# Altium footprint library IND_SPM6530T-100M.PcbLib: 1 footprints
Each footprint in its own frame and in the unit in brackets; x right, y up, seen from the top. Pads: shape width x height; smd on the part's side, far side on the other; paste and mask are expansions set on the pad; w line width, h text height; cw(c..) or ccw(c..) is an arc to the next point about the centre after c.
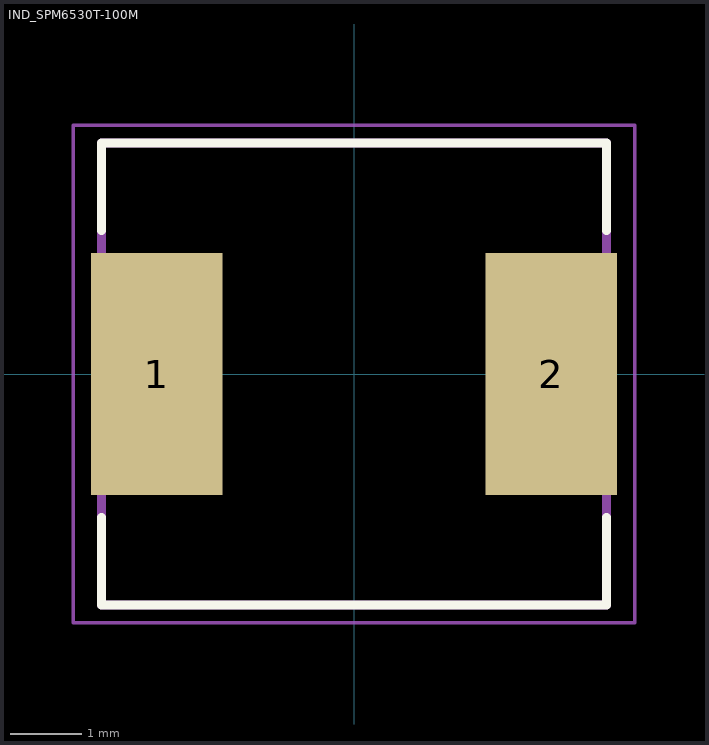
[diagram p0: the footprint, top view; thin cyan lines are the x and y axes]

## IND_SPM6530T-100M [mm]
height 3
pads (2):
  rect 1.85x3.4 smd: 1(-2.775,0) 2(2.775,0)
Top Overlay:
  lines w0.127: -3.55,-2.02 -3.55,-3.25 3.55,-3.25 3.55,-2.02 ; -3.55,2.02 -3.55,3.25 3.55,3.25 3.55,2.02
Assembly Top:
  lines w0.127: -3.55,-3.25 3.55,-3.25 3.55,3.25 -3.55,3.25 -3.55,-3.25
Top Courtyard:
  lines w0.05: -3.95,-3.5 3.95,-3.5 3.95,3.5 -3.95,3.5 -3.95,-3.5
3D body "SPM6530TYPE.step": height 3.11, standoff 0.01, extent -3.6,-3.2 3.6,3.2